# Altium schematic symbol library 4pin_molex_ultra.SchLib: 1 symbol
Pins are listed as number, name and electrical type; pins without a type are passive.

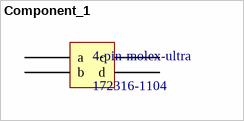
[diagram p0: symbol Component_1]

## Component_1
designator 4-pin-molex-ultra, comment 172316-1104
Headers & Wire Housings ULTRAFIT 3.5MM 4CKT HDR R/A D/R BLK TIN
footprint PCBComponent_1
pins: 1 a, 2 b, 3 c, 4 d